# EAGLE library part T (library 0T)
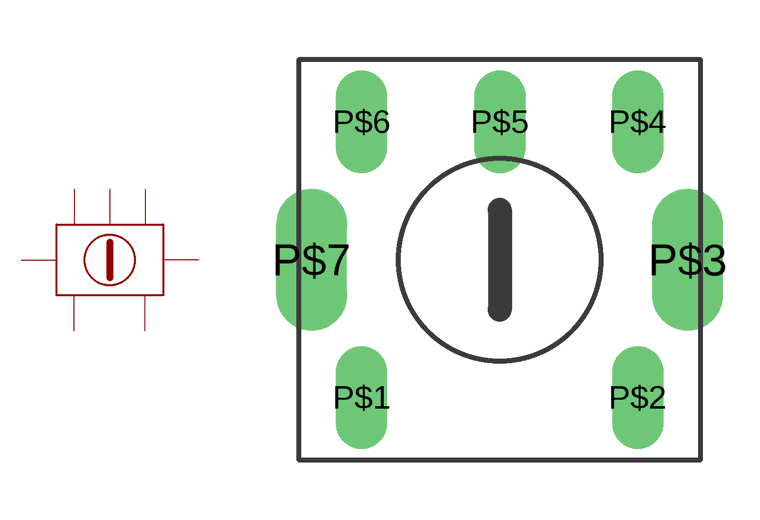
[diagram p1: symbol with the pads of T; footprint T]

Designator prefix T

## T  [T]
P$1  P$1
P$2  P$2
P$3  P$3
P$4  P$4
P$5  P$5
P$6  P$6
P$7  P$7

## Footprint T (pad centres in mm)
drill 0.8 long: P$1 -3.493,-3.493; P$2 3.493,-3.493; P$4 3.493,3.493; P$5 0,3.493; P$6 -3.493,3.493
drill 1.2 long: P$3 4.763,0; P$7 -4.763,0